# EAGLE library part MCP2551-I_SN (library Custom_Hat_Library)
High Speed CAN Transceiver,MCP2551-I/SN Source: Datasheet <https://datasheet.datasheetarchive.com/originals/distributors/Datasheets-34/DSA-674994.pdf>
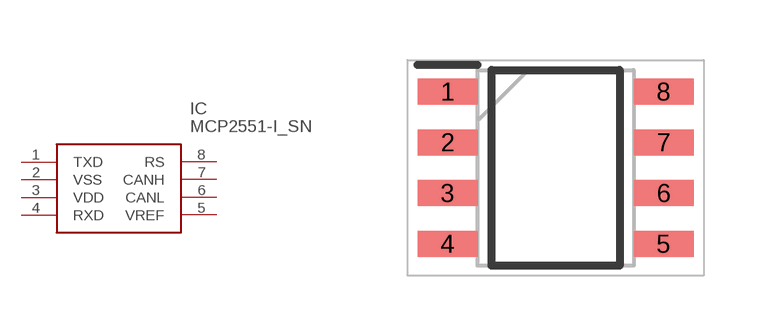
[diagram p2: symbol with the pads of SOIC127P600X175-8N; footprint SOIC127P600X175-8N]

Designator prefix IC

## MCP2551-I_SN (ARROW_PART_NUMBER: MCP2551-I/SN; ARROW_PRICE-STOCK: https://www.arrow.com/en/products/mcp2551-isn/microchip-technology?region=nac; DESCRIPTION: High Speed CAN Transceiver,MCP2551-I/SN; HEIGHT: 1.75mm; MANUFACTURER_NAME: Microchip; MANUFACTURER_PART_NUMBER: MCP2551-I/SN; MOUSER_PART_NUMBER: 579-MCP2551-I/SN; MOUSER_PRICE-STOCK: https://www.mouser.co.uk/ProductDetail/Microchip-Technology/MCP2551-I-SN?qs=9y3LFqDLL8L5zFfqqxdOHg%3D%3D)  [SOIC127P600X175-8N]
1  TXD
2  VSS
3  VDD
4  RXD
5  VREF
6  CANL
7  CANH
8  RS

## Footprint SOIC127P600X175-8N (pad centres in mm)
SOIC8-NARROW-1
smd 1.5 x 0.65: 1 -2.7,1.905; 2 -2.7,0.635; 3 -2.7,-0.635; 4 -2.7,-1.905; 5 2.7,-1.905; 6 2.7,-0.635; 7 2.7,0.635; 8 2.7,1.905